# EAGLE library part ATX_2.X_24PIN (library ARVP_Linear_Technology)
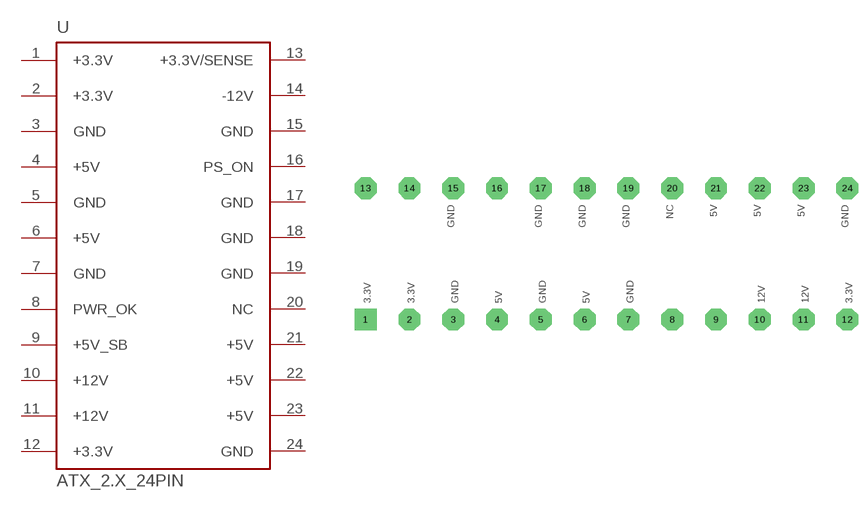
[diagram p5: symbol with the pads of ATX_2.X; footprint ATX_2.X]

Designator prefix -

## ATX_2.X_24PIN  [ATX_2.X]
1  +3.3V
2  +3.3V
3  GND
4  +5V
5  GND
6  +5V
7  GND
8  PWR_OK
9  +5V_SB
10  +12V
11  +12V
12  +3.3V
13  +3.3V/SENSE
14  -12V
15  GND
16  PS_ON
17  GND
18  GND
19  GND
20  NC
21  +5V
22  +5V
23  +5V
24  GND

## Footprint ATX_2.X (pad centres in mm)
drill 2 pad 4 square: 1 -44,-12
drill 2 pad 4 octagon: 2 -36,-12; 3 -28,-12; 4 -20,-12; 5 -12,-12; 6 -4,-12; 7 4,-12; 8 12,-12; 9 20,-12; 10 28,-12; 11 36,-12; 12 44,-12; 13 -44,12; 14 -36,12; 15 -28,12; 16 -20,12; 17 -12,12; 18 -4,12; 19 4,12; 20 12,12; 21 20,12; 22 28,12; 23 36,12; 24 44,12